# Altium footprint library SamacSys.PcbLib: 11 footprints
Each footprint in its own frame and in the unit in brackets; x right, y up, seen from the top. Pads: shape width x height; smd on the part's side, far side on the other; paste and mask are expansions set on the pad; w line width, h text height; cw(c..) or ccw(c..) is an arc to the next point about the centre after c.
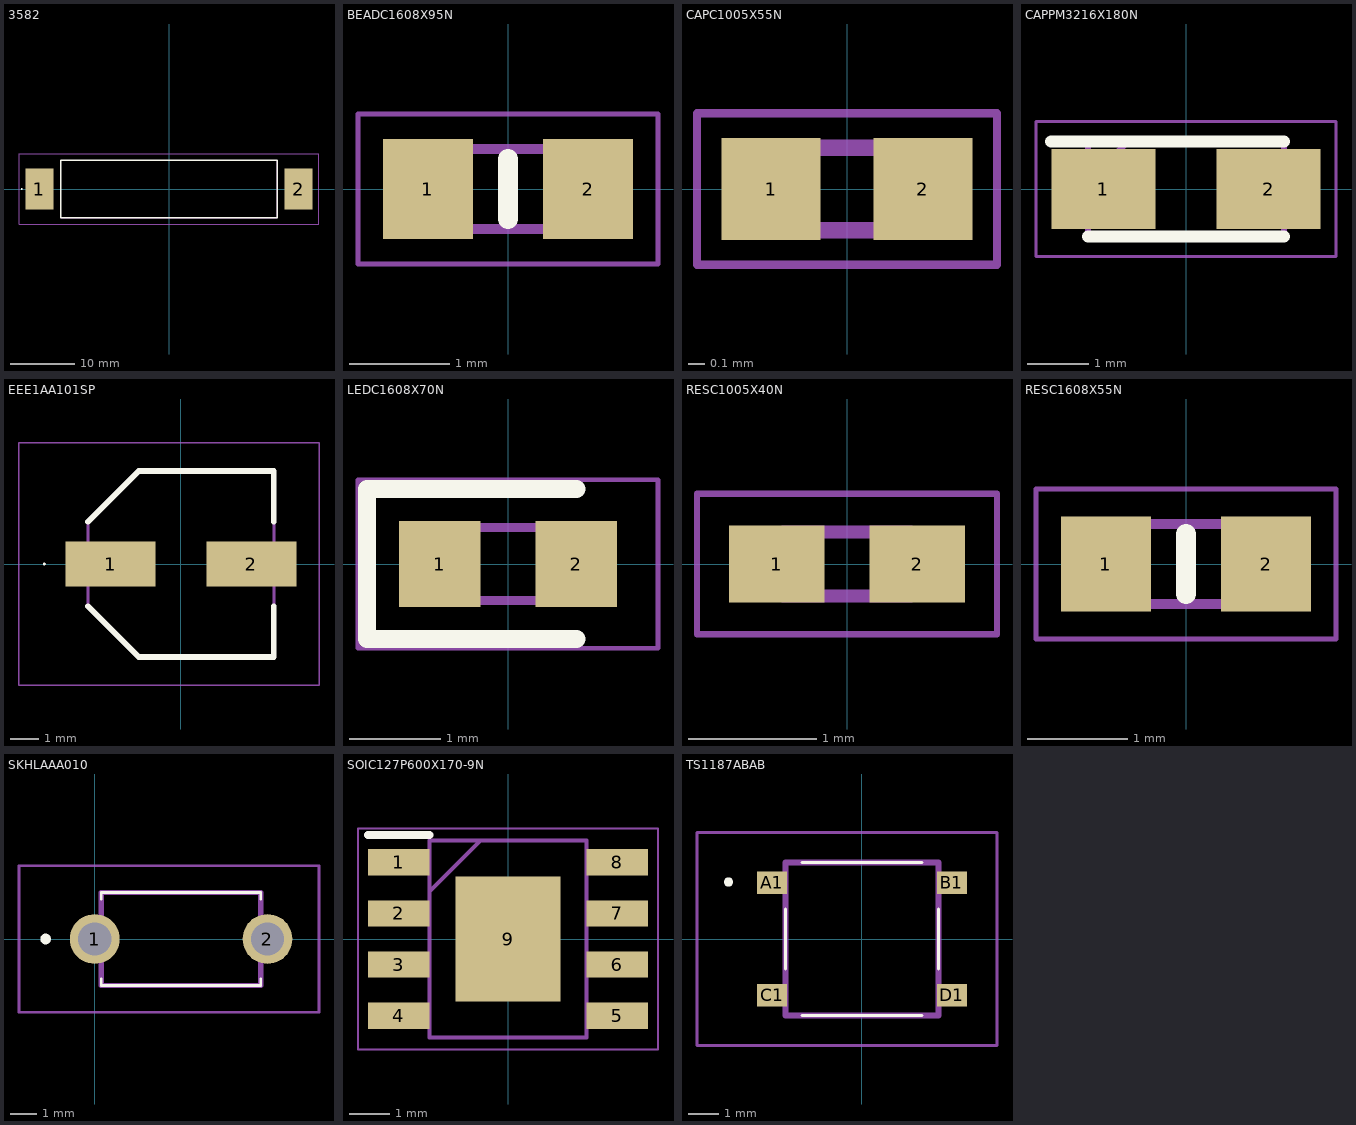
[diagram p0: the footprints below, top view; thin cyan lines are the x and y axes]

## 3582 [mm]
pads (2):
  rect 4.32x6.35 smd: 1(-20.11,0) 2(20.11,0)
Top Overlay:
  lines w0.1: -22.9,0 ccw(c-22.85,0) -22.8,0 ccw(c-22.85,0) -22.9,0
  lines w0.2: -16.825,-4.445 -16.825,4.445 16.825,4.445 16.825,-4.445 -16.825,-4.445
Mechanical 13:
  lines w0.1: -16.825,-4.445 -16.825,4.445 16.825,4.445 16.825,-4.445 -16.825,-4.445
Mechanical 15:
  lines w0.1: -23.27,-5.445 -23.27,5.445 23.27,5.445 23.27,-5.445 -23.27,-5.445
3D body "3582.stp": height 14.23, standoff 0, extent -22.066,-4.441 22.067,4.449

## BEADC1608X95N [mm]
pads (2):
  rect 0.9x1 smd: 1(-0.8,0) 2(0.8,0)
Top Overlay:
  lines w0.2: 0,-0.3 0,0.3
Mechanical 13:
  lines w0.1: -0.8,-0.4 -0.8,0.4 0.8,0.4 0.8,-0.4 -0.8,-0.4
Mechanical 15:
  lines w0.05: -1.5,-0.75 -1.5,0.75 1.5,0.75 1.5,-0.75 -1.5,-0.75
3D body "FCM1608KF-601T05.stp": height 0.95, standoff 0, extent -0.8,-0.4 0.8,0.4

## CAPC1005X55N [mm]
pads (2):
  rect 0.6x0.62 smd: 1(-0.46,0) 2(0.46,0)
Mechanical 13:
  lines w0.1: -0.5,-0.25 -0.5,0.25 0.5,0.25 0.5,-0.25 -0.5,-0.25
Mechanical 15:
  lines w0.05: -0.91,-0.46 -0.91,0.46 0.91,0.46 0.91,-0.46 -0.91,-0.46
3D body "CL05B104KO5NNNC.stp": height 0.55, standoff 0, extent -0.5,-0.25 0.5,0.25

## CAPPM3216X180N [mm]
pads (2):
  rect 1.7x1.3 smd: 1(-1.35,0) 2(1.35,0)
Top Overlay:
  lines w0.2: -2.2,0.775 1.6,0.775 ; -1.6,-0.775 1.6,-0.775
Mechanical 13:
  lines w0.1: -1.6,0.125 -0.95,0.775 ; -1.6,-0.775 -1.6,0.775 1.6,0.775 1.6,-0.775 -1.6,-0.775
Mechanical 15:
  lines w0.05: -2.45,-1.1 -2.45,1.1 2.45,1.1 2.45,-1.1 -2.45,-1.1
3D body "TAJA685K016RNJ.stp": height 1.8, standoff 0, extent -1.6,-0.775 1.6,0.775

## EEE1AA101SP [mm]
pads (2):
  rect 3.2x1.6 smd: 1(-2.5,0) 2(2.5,0)
Top Overlay:
  lines w0.05: -4.875,0 cw(c-4.85,0) -4.825,0 cw(c-4.85,0) -4.875,0
  lines w0.2: -3.3,-1.5 -1.5,-3.3 3.3,-3.3 3.3,-1.5 ; -3.3,1.5 -1.5,3.3 3.3,3.3 3.3,1.5
Mechanical 13:
  lines w0.1: -3.3,1.5 -1.5,3.3 ; -3.3,1.5 -3.3,-1.5 -1.5,-3.3 3.3,-3.3 3.3,3.3 -1.5,3.3 ; -3.3,1.5 -1.5,3.3
Mechanical 15:
  lines w0.05: -5.75,-4.3 -5.75,4.3 4.9,4.3 4.9,-4.3 -5.75,-4.3
3D body "EEE-FT1V680AP.stp": height 5.8, standoff 0, extent -3.65,-3.3 3.65,3.3

## LEDC1608X70N [mm]
pads (2):
  rect 0.9x0.95 smd: 1(-0.75,0) 2(0.75,0)
Top Overlay:
  lines w0.2: 0.75,-0.825 -1.55,-0.825 -1.55,0.825 0.75,0.825
Mechanical 13:
  lines w0.1: -0.8,0.133 -0.533,0.4 ; -0.8,-0.4 0.8,-0.4 0.8,0.4 -0.8,0.4 -0.8,-0.4
Mechanical 15:
  lines w0.05: -1.65,-0.925 1.65,-0.925 1.65,0.925 -1.65,0.925 -1.65,-0.925

## RESC1005X40N [mm]
pads (2):
  rect 0.75x0.6 smd: 1(-0.55,0) 2(0.55,0)
Mechanical 13:
  lines w0.1: -0.5,-0.25 0.5,-0.25 0.5,0.25 -0.5,0.25 -0.5,-0.25
Mechanical 15:
  lines w0.05: -1.175,-0.55 1.175,-0.55 1.175,0.55 -1.175,0.55 -1.175,-0.55
3D body "0402WGF1002TCE.stp": height 0.4, standoff 0, extent -0.5,-0.25 0.5,0.25

## RESC1608X55N [mm]
pads (2):
  rect 0.9x0.95 smd: 1(-0.8,0) 2(0.8,0)
Top Overlay:
  lines w0.2: 0,-0.3 0,0.3
Mechanical 13:
  lines w0.1: -0.8,-0.4 -0.8,0.4 0.8,0.4 0.8,-0.4 -0.8,-0.4
Mechanical 15:
  lines w0.05: -1.5,-0.75 -1.5,0.75 1.5,0.75 1.5,-0.75 -1.5,-0.75
3D body "0603WAF1202T5E.stp": height 0.55, standoff 0, extent -0.8,-0.4 0.8,0.4

## SKHLAAA010 [mm]
pads (2):
  round 1.875 hole 1.25: 1(0,0) 2(6.5,0)
Top Overlay:
  lines w0.1: 0.25,-1.5 0.25,-1.75 6.25,-1.75 6.25,-1.5 ; 0.25,1.5 0.25,1.75 6.25,1.75 6.25,1.5
  lines w0.2: -1.95,0 ccw(c-1.85,0) -1.75,0 ccw(c-1.85,0) -1.95,0
Mechanical 13:
  lines w0.2: 0.25,-1.75 0.25,1.75 6.25,1.75 6.25,-1.75 0.25,-1.75
Mechanical 15:
  lines w0.1: -2.85,-2.75 -2.85,2.75 8.438,2.75 8.438,-2.75 -2.85,-2.75
3D body "SKHLAAA010.stp": height 4.3, standoff -3.5, extent -0.659,-1.48 7.159,2.02

## SOIC127P600X170-9N [mm]
pads (9):
  rect 1.525x0.65 smd: 1(-2.712,1.905) 2(-2.712,0.635) 3(-2.712,-0.635) 4(-2.712,-1.905) 5(2.712,-1.905) 6(2.712,-0.635) 7(2.712,0.635) 8(2.712,1.905)
  rect 2.6x3.1 smd: 9(0,0)
Top Overlay:
  lines w0.2: -3.475,2.58 -1.95,2.58
Mechanical 13:
  lines w0.1: -1.95,1.18 -0.68,2.45 ; -1.95,-2.45 -1.95,2.45 1.95,2.45 1.95,-2.45 -1.95,-2.45
Mechanical 15:
  lines w0.05: -3.725,-2.75 -3.725,2.75 3.725,2.75 3.725,-2.75 -3.725,-2.75
3D body "TPS5430DDAR.stp": height 1.57, standoff 0, extent -3.014,-2.45 3.014,2.45

## TS1187ABAB [mm]
pads (4):
  rect 1x0.75 smd: A1(-3,1.875) B1(3,1.875) C1(-3,-1.875) D1(3,-1.875)
Top Overlay:
  lines w0.1: -2.55,-1 -2.55,1 ; -2,-2.55 2,-2.55 ; -2,2.55 2,2.55 ; 2.55,-1 2.55,1
  lines w0.2: -4.5,1.9 ccw(c-4.45,1.9) -4.4,1.9 ; -4.5,1.9 cw(c-4.45,1.9) -4.4,1.9 ; -4.5,1.9 ccw(c-4.45,1.9) -4.4,1.9
Mechanical 13:
  lines w0.2: -2.55,-2.55 -2.55,2.55 2.55,2.55 2.55,-2.55 -2.55,-2.55
Mechanical 15:
  lines w0.1: -5.5,-3.55 -5.5,3.55 4.5,3.55 4.5,-3.55 -5.5,-3.55
3D body "TS-1187A-B-A-B.stp": height 1.5, standoff 0, extent -3.2,-2.55 3.3,2.55